# Altium footprint library STM32U5A5ZJT6.PcbLib: 3 footprints
Each footprint in its own frame and in the unit in brackets; x right, y up, seen from the top. Pads: shape width x height; smd on the part's side, far side on the other; paste and mask are expansions set on the pad; w line width, h text height; cw(c..) or ccw(c..) is an arc to the next point about the centre after c.
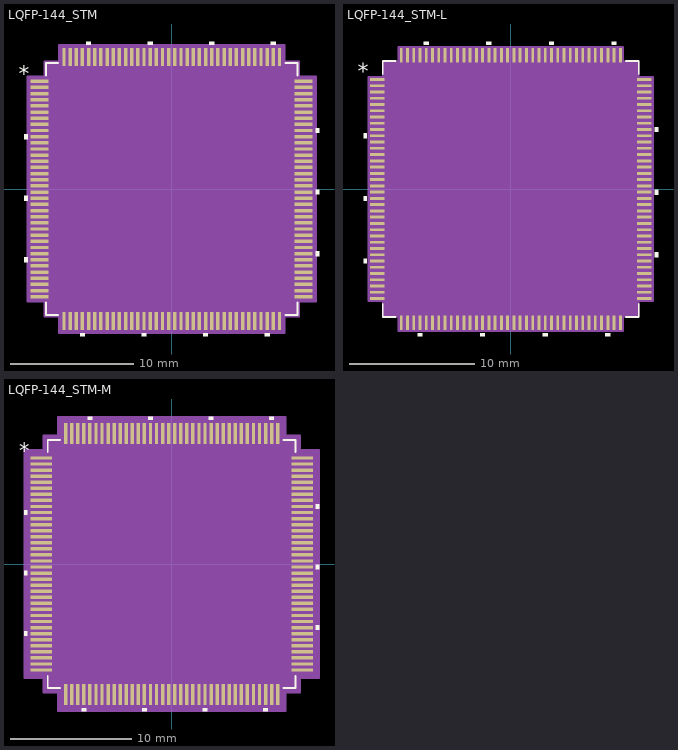
[diagram p0: the footprints below, top view; thin cyan lines are the x and y axes]

## LQFP-144_STM [mil]
pads (144):
  rect 57.56x11 smd paste+0 mask+0: 1(-422,344.49) 2(-422,324.8) 3(-422,305.12) 4(-422,285.43) 5(-422,265.75) 6(-422,246.06) 7(-422,226.38) 8(-422,206.69) 9(-422,187.01) 10(-422,167.32) 11(-422,147.64) 12(-422,127.95) 13(-422,108.27) 14(-422,88.58) 15(-422,68.9) 16(-422,49.21) 17(-422,29.53) 18(-422,9.84) 19(-422,-9.84) 20(-422,-29.53) 21(-422,-49.21) 22(-422,-68.9) 23(-422,-88.58) 24(-422,-108.27) 25(-422,-127.95) 26(-422,-147.64) 27(-422,-167.32) 28(-422,-187.01) 29(-422,-206.69) 30(-422,-226.38) 31(-422,-246.06) 32(-422,-265.75) 33(-422,-285.43) 34(-422,-305.12) 35(-422,-324.8) 36(-422,-344.49) 73(422,-344.49) 74(422,-324.8) 75(422,-305.12) 76(422,-285.43) 77(422,-265.75) 78(422,-246.06) 79(422,-226.38) 80(422,-206.69) 81(422,-187.01) 82(422,-167.32) 83(422,-147.64) 84(422,-127.95) 85(422,-108.27) 86(422,-88.58) 87(422,-68.9) 88(422,-49.21) 89(422,-29.53) 90(422,-9.84) 91(422,9.84) 92(422,29.53) 93(422,49.21) 94(422,68.9) 95(422,88.58) 96(422,108.27) 97(422,127.95) 98(422,147.64) 99(422,167.32) 100(422,187.01) 101(422,206.69) 102(422,226.38) 103(422,246.06) 104(422,265.75) 105(422,285.43) 106(422,305.12) 107(422,324.8) 108(422,344.49)
  rect 11x57.56 smd paste+0 mask+0: 37(-344.49,-422) 38(-324.8,-422) 39(-305.12,-422) 40(-285.43,-422) 41(-265.75,-422) 42(-246.06,-422) 43(-226.38,-422) 44(-206.69,-422) 45(-187.01,-422) 46(-167.32,-422) 47(-147.64,-422) 48(-127.95,-422) 49(-108.27,-422) 50(-88.58,-422) 51(-68.9,-422) 52(-49.21,-422) 53(-29.53,-422) 54(-9.84,-422) 55(9.84,-422) 56(29.53,-422) 57(49.21,-422) 58(68.9,-422) 59(88.58,-422) 60(108.27,-422) 61(127.95,-422) 62(147.64,-422) 63(167.32,-422) 64(187.01,-422) 65(206.69,-422) 66(226.38,-422) 67(246.06,-422) 68(265.75,-422) 69(285.43,-422) 70(305.12,-422) 71(324.8,-422) 72(344.49,-422) 109(344.49,422) 110(324.8,422) 111(305.12,422) 112(285.43,422) 113(265.75,422) 114(246.06,422) 115(226.38,422) 116(206.69,422) 117(187.01,422) 118(167.32,422) 119(147.64,422) 120(127.95,422) 121(108.27,422) 122(88.58,422) 123(68.9,422) 124(49.21,422) 125(29.53,422) 126(9.84,422) 127(-9.84,422) 128(-29.53,422) 129(-49.21,422) 130(-68.9,422) 131(-88.58,422) 132(-108.27,422) 133(-127.95,422) 134(-147.64,422) 135(-167.32,422) 136(-187.01,422) 137(-206.69,422) 138(-226.38,422) 139(-246.06,422) 140(-265.75,422) 141(-285.43,422) 142(-305.12,422) 143(-324.8,422) 144(-344.49,422)
Top Overlay:
  region: -460.78,174.82 -470.78,174.82 -470.78,159.82 -460.78,159.82
  region: -460.78,-22.03 -470.78,-22.03 -470.78,-37.03 -460.78,-37.03
  region: -460.78,-218.88 -470.78,-218.88 -470.78,-233.88 -460.78,-233.88
  region: -277.93,-460.78 -292.93,-460.78 -292.93,-470.78 -277.93,-470.78
  region: -81.08,-460.78 -96.08,-460.78 -96.08,-470.78 -81.08,-470.78
  region: 115.77,-460.78 100.77,-460.78 100.77,-470.78 115.77,-470.78
  region: 312.62,-460.78 297.62,-460.78 297.62,-470.78 312.62,-470.78
  region: 460.78,-199.19 470.78,-199.19 470.78,-214.19 460.78,-214.19
  region: 460.78,-2.34 470.78,-2.34 470.78,-17.34 460.78,-17.34
  region: 460.78,194.51 470.78,194.51 470.78,179.51 460.78,179.51
  region: 332.3,460.78 317.3,460.78 317.3,470.78 332.3,470.78
  region: 135.45,460.78 120.45,460.78 120.45,470.78 135.45,470.78
  region: -61.4,460.78 -76.4,460.78 -76.4,470.78 -61.4,470.78
  region: -258.25,460.78 -273.25,460.78 -273.25,470.78 -258.25,470.78
  lines w6: -402.5,-363.09 -402.5,-402.5 -363.09,-402.5 ; -402.5,363.09 -402.5,402.5 -363.09,402.5 ; 363.09,-402.5 402.5,-402.5 402.5,-363.09 ; 363.09,402.5 402.5,402.5 402.5,363.09
  text "*" at -488.28,344.33 h50
Mechanical 13:
  drawing of 581 lines, arcs and shapes, not listed
  text "*" at -395,329.33 h50
Mechanical 15:
  region: -359.99,-407.5 -407.5,-407.5 -407.5,-359.99 -460.78,-359.99 -460.78,359.99 -407.5,359.99 -407.5,407.5 -359.99,407.5 -359.99,460.78 359.99,460.78 359.99,407.5 407.5,407.5 407.5,359.99 460.78,359.99 460.78,-359.99 407.5,-359.99 407.5,-407.5 359.99,-407.5 359.99,-460.78 -359.99,-460.78
  lines w6: -460.78,-359.99 -407.5,-359.99 -407.5,-407.5 -359.99,-407.5 -359.99,-460.78 359.99,-460.78 359.99,-407.5 407.5,-407.5 407.5,-359.99 460.78,-359.99 460.78,359.99 407.5,359.99 407.5,407.5 359.99,407.5 359.99,460.78 -359.99,460.78 -359.99,407.5 -407.5,407.5 -407.5,359.99 -460.78,359.99 -460.78,-359.99
3D body "LQFP-144_STM.step": height 63.11, standoff 0, extent -437.01,-437.01 437.01,437.01

## LQFP-144_STM-L [mm]
pads (144):
  rect 1.162x0.229 smd paste+0 mask+0: 1(-10.669,8.75) 2(-10.669,8.25) 3(-10.669,7.75) 4(-10.669,7.25) 5(-10.669,6.75) 6(-10.669,6.25) 7(-10.669,5.75) 8(-10.669,5.25) 9(-10.669,4.75) 10(-10.669,4.25) 11(-10.669,3.75) 12(-10.669,3.25) 13(-10.669,2.75) 14(-10.669,2.25) 15(-10.669,1.75) 16(-10.669,1.25) 17(-10.669,0.75) 18(-10.669,0.25) 19(-10.669,-0.25) 20(-10.669,-0.75) 21(-10.669,-1.25) 22(-10.669,-1.75) 23(-10.669,-2.25) 24(-10.669,-2.75) 25(-10.669,-3.25) 26(-10.669,-3.75) 27(-10.669,-4.25) 28(-10.669,-4.75) 29(-10.669,-5.25) 30(-10.669,-5.75) 31(-10.669,-6.25) 32(-10.669,-6.75) 33(-10.669,-7.25) 34(-10.669,-7.75) 35(-10.669,-8.25) 36(-10.669,-8.75) 73(10.669,-8.75) 74(10.669,-8.25) 75(10.669,-7.75) 76(10.669,-7.25) 77(10.669,-6.75) 78(10.669,-6.25) 79(10.669,-5.75) 80(10.669,-5.25) 81(10.669,-4.75) 82(10.669,-4.25) 83(10.669,-3.75) 84(10.669,-3.25) 85(10.669,-2.75) 86(10.669,-2.25) 87(10.669,-1.75) 88(10.669,-1.25) 89(10.669,-0.75) 90(10.669,-0.25) 91(10.669,0.25) 92(10.669,0.75) 93(10.669,1.25) 94(10.669,1.75) 95(10.669,2.25) 96(10.669,2.75) 97(10.669,3.25) 98(10.669,3.75) 99(10.669,4.25) 100(10.669,4.75) 101(10.669,5.25) 102(10.669,5.75) 103(10.669,6.25) 104(10.669,6.75) 105(10.669,7.25) 106(10.669,7.75) 107(10.669,8.25) 108(10.669,8.75)
  rect 0.229x1.162 smd paste+0 mask+0: 37(-8.75,-10.669) 38(-8.25,-10.669) 39(-7.75,-10.669) 40(-7.25,-10.669) 41(-6.75,-10.669) 42(-6.25,-10.669) 43(-5.75,-10.669) 44(-5.25,-10.669) 45(-4.75,-10.669) 46(-4.25,-10.669) 47(-3.75,-10.669) 48(-3.25,-10.669) 49(-2.75,-10.669) 50(-2.25,-10.669) 51(-1.75,-10.669) 52(-1.25,-10.669) 53(-0.75,-10.669) 54(-0.25,-10.669) 55(0.25,-10.669) 56(0.75,-10.669) 57(1.25,-10.669) 58(1.75,-10.669) 59(2.25,-10.669) 60(2.75,-10.669) 61(3.25,-10.669) 62(3.75,-10.669) 63(4.25,-10.669) 64(4.75,-10.669) 65(5.25,-10.669) 66(5.75,-10.669) 67(6.25,-10.669) 68(6.75,-10.669) 69(7.25,-10.669) 70(7.75,-10.669) 71(8.25,-10.669) 72(8.75,-10.669) 109(8.75,10.669) 110(8.25,10.669) 111(7.75,10.669) 112(7.25,10.669) 113(6.75,10.669) 114(6.25,10.669) 115(5.75,10.669) 116(5.25,10.669) 117(4.75,10.669) 118(4.25,10.669) 119(3.75,10.669) 120(3.25,10.669) 121(2.75,10.669) 122(2.25,10.669) 123(1.75,10.669) 124(1.25,10.669) 125(0.75,10.669) 126(0.25,10.669) 127(-0.25,10.669) 128(-0.75,10.669) 129(-1.25,10.669) 130(-1.75,10.669) 131(-2.25,10.669) 132(-2.75,10.669) 133(-3.25,10.669) 134(-3.75,10.669) 135(-4.25,10.669) 136(-4.75,10.669) 137(-5.25,10.669) 138(-5.75,10.669) 139(-6.25,10.669) 140(-6.75,10.669) 141(-7.25,10.669) 142(-7.75,10.669) 143(-8.25,10.669) 144(-8.75,10.669)
Top Overlay:
  region: -6.559,11.504 -6.94,11.504 -6.94,11.758 -6.559,11.758
  region: -1.559,11.504 -1.94,11.504 -1.94,11.758 -1.559,11.758
  region: 3.441,11.504 3.06,11.504 3.06,11.758 3.441,11.758
  region: 8.441,11.504 8.06,11.504 8.06,11.758 8.441,11.758
  region: 11.504,4.941 11.758,4.941 11.758,4.56 11.504,4.56
  region: 11.504,-0.059 11.758,-0.059 11.758,-0.44 11.504,-0.44
  region: 11.504,-5.059 11.758,-5.059 11.758,-5.44 11.504,-5.44
  region: 7.94,-11.504 7.559,-11.504 7.559,-11.758 7.94,-11.758
  region: 2.94,-11.504 2.559,-11.504 2.559,-11.758 2.94,-11.758
  region: -2.06,-11.504 -2.441,-11.504 -2.441,-11.758 -2.06,-11.758
  region: -7.06,-11.504 -7.441,-11.504 -7.441,-11.758 -7.06,-11.758
  region: -11.504,-5.56 -11.758,-5.56 -11.758,-5.941 -11.504,-5.941
  region: -11.504,-0.56 -11.758,-0.56 -11.758,-0.941 -11.504,-0.941
  region: -11.504,4.44 -11.758,4.44 -11.758,4.059 -11.504,4.059
  lines w0.152: -10.223,-9.197 -10.223,-10.223 -9.197,-10.223 ; -10.223,9.197 -10.223,10.223 -9.197,10.223 ; 9.197,-10.223 10.223,-10.223 10.223,-9.197 ; 9.197,10.223 10.223,10.223 10.223,9.197
  text "*" at -12.202,8.746 h1.27
Mechanical 13:
  drawing of 581 lines, arcs and shapes, not listed
  text "*" at -10.033,8.365 h1.27
Mechanical 15:
  region: -8.966,-10.198 -10.198,-10.198 -10.198,-8.966 -11.351,-8.966 -11.351,8.966 -10.198,8.966 -10.198,10.198 -8.966,10.198 -8.966,11.351 8.966,11.351 8.966,10.198 10.198,10.198 10.198,8.966 11.351,8.966 11.351,-8.966 10.198,-8.966 10.198,-10.198 8.966,-10.198 8.966,-11.351 -8.966,-11.351
  lines w0.152: -11.351,-8.966 -11.351,8.966 -10.198,8.966 -10.198,10.198 -8.966,10.198 -8.966,11.351 8.966,11.351 8.966,10.198 10.198,10.198 10.198,8.966 11.351,8.966 11.351,-8.966 10.198,-8.966 10.198,-10.198 8.966,-10.198 8.966,-11.351 -8.966,-11.351 -8.966,-10.198 -10.198,-10.198 -10.198,-8.966 -11.351,-8.966
3D body "LQFP-144_STM.step": height 1.6, standoff 0, extent -11.1,-11.1 11.1,11.1

## LQFP-144_STM-M [mm]
pads (144):
  rect 1.762x0.279 smd paste+0 mask+0: 1(-10.769,8.75) 2(-10.769,8.25) 3(-10.769,7.75) 4(-10.769,7.25) 5(-10.769,6.75) 6(-10.769,6.25) 7(-10.769,5.75) 8(-10.769,5.25) 9(-10.769,4.75) 10(-10.769,4.25) 11(-10.769,3.75) 12(-10.769,3.25) 13(-10.769,2.75) 14(-10.769,2.25) 15(-10.769,1.75) 16(-10.769,1.25) 17(-10.769,0.75) 18(-10.769,0.25) 19(-10.769,-0.25) 20(-10.769,-0.75) 21(-10.769,-1.25) 22(-10.769,-1.75) 23(-10.769,-2.25) 24(-10.769,-2.75) 25(-10.769,-3.25) 26(-10.769,-3.75) 27(-10.769,-4.25) 28(-10.769,-4.75) 29(-10.769,-5.25) 30(-10.769,-5.75) 31(-10.769,-6.25) 32(-10.769,-6.75) 33(-10.769,-7.25) 34(-10.769,-7.75) 35(-10.769,-8.25) 36(-10.769,-8.75) 73(10.769,-8.75) 74(10.769,-8.25) 75(10.769,-7.75) 76(10.769,-7.25) 77(10.769,-6.75) 78(10.769,-6.25) 79(10.769,-5.75) 80(10.769,-5.25) 81(10.769,-4.75) 82(10.769,-4.25) 83(10.769,-3.75) 84(10.769,-3.25) 85(10.769,-2.75) 86(10.769,-2.25) 87(10.769,-1.75) 88(10.769,-1.25) 89(10.769,-0.75) 90(10.769,-0.25) 91(10.769,0.25) 92(10.769,0.75) 93(10.769,1.25) 94(10.769,1.75) 95(10.769,2.25) 96(10.769,2.75) 97(10.769,3.25) 98(10.769,3.75) 99(10.769,4.25) 100(10.769,4.75) 101(10.769,5.25) 102(10.769,5.75) 103(10.769,6.25) 104(10.769,6.75) 105(10.769,7.25) 106(10.769,7.75) 107(10.769,8.25) 108(10.769,8.75)
  rect 0.279x1.762 smd paste+0 mask+0: 37(-8.75,-10.769) 38(-8.25,-10.769) 39(-7.75,-10.769) 40(-7.25,-10.769) 41(-6.75,-10.769) 42(-6.25,-10.769) 43(-5.75,-10.769) 44(-5.25,-10.769) 45(-4.75,-10.769) 46(-4.25,-10.769) 47(-3.75,-10.769) 48(-3.25,-10.769) 49(-2.75,-10.769) 50(-2.25,-10.769) 51(-1.75,-10.769) 52(-1.25,-10.769) 53(-0.75,-10.769) 54(-0.25,-10.769) 55(0.25,-10.769) 56(0.75,-10.769) 57(1.25,-10.769) 58(1.75,-10.769) 59(2.25,-10.769) 60(2.75,-10.769) 61(3.25,-10.769) 62(3.75,-10.769) 63(4.25,-10.769) 64(4.75,-10.769) 65(5.25,-10.769) 66(5.75,-10.769) 67(6.25,-10.769) 68(6.75,-10.769) 69(7.25,-10.769) 70(7.75,-10.769) 71(8.25,-10.769) 72(8.75,-10.769) 109(8.75,10.769) 110(8.25,10.769) 111(7.75,10.769) 112(7.25,10.769) 113(6.75,10.769) 114(6.25,10.769) 115(5.75,10.769) 116(5.25,10.769) 117(4.75,10.769) 118(4.25,10.769) 119(3.75,10.769) 120(3.25,10.769) 121(2.75,10.769) 122(2.25,10.769) 123(1.75,10.769) 124(1.25,10.769) 125(0.75,10.769) 126(0.25,10.769) 127(-0.25,10.769) 128(-0.75,10.769) 129(-1.25,10.769) 130(-1.75,10.769) 131(-2.25,10.769) 132(-2.75,10.769) 133(-3.25,10.769) 134(-3.75,10.769) 135(-4.25,10.769) 136(-4.75,10.769) 137(-5.25,10.769) 138(-5.75,10.769) 139(-6.25,10.769) 140(-6.75,10.769) 141(-7.25,10.769) 142(-7.75,10.769) 143(-8.25,10.769) 144(-8.75,10.769)
Top Overlay:
  region: -11.904,4.44 -12.158,4.44 -12.158,4.059 -11.904,4.059
  region: -11.904,-0.56 -12.158,-0.56 -12.158,-0.941 -11.904,-0.941
  region: -11.904,-5.56 -12.158,-5.56 -12.158,-5.941 -11.904,-5.941
  region: -7.06,-11.904 -7.441,-11.904 -7.441,-12.158 -7.06,-12.158
  region: -2.06,-11.904 -2.441,-11.904 -2.441,-12.158 -2.06,-12.158
  region: 2.94,-11.904 2.559,-11.904 2.559,-12.158 2.94,-12.158
  region: 7.94,-11.904 7.559,-11.904 7.559,-12.158 7.94,-12.158
  region: 11.904,-5.059 12.158,-5.059 12.158,-5.44 11.904,-5.44
  region: 11.904,-0.059 12.158,-0.059 12.158,-0.44 11.904,-0.44
  region: 11.904,4.941 12.158,4.941 12.158,4.56 11.904,4.56
  region: 8.441,11.904 8.06,11.904 8.06,12.158 8.441,12.158
  region: 3.441,11.904 3.06,11.904 3.06,12.158 3.441,12.158
  region: -1.559,11.904 -1.94,11.904 -1.94,12.158 -1.559,12.158
  region: -6.559,11.904 -6.94,11.904 -6.94,12.158 -6.559,12.158
  lines w0.152: -10.223,-9.222 -10.223,-10.223 -9.222,-10.223 ; -10.223,9.222 -10.223,10.223 -9.222,10.223 ; 9.222,-10.223 10.223,-10.223 10.223,-9.222 ; 9.222,10.223 10.223,10.223 10.223,9.222
  text "*" at -12.602,8.746 h1.27
Mechanical 13:
  drawing of 581 lines, arcs and shapes, not listed
  text "*" at -10.033,8.365 h1.27
Mechanical 15:
  region: -9.398,-10.604 -10.604,-10.604 -10.604,-9.398 -12.158,-9.398 -12.158,9.398 -10.604,9.398 -10.604,10.604 -9.398,10.604 -9.398,12.158 9.398,12.158 9.398,10.604 10.604,10.604 10.604,9.398 12.158,9.398 12.158,-9.398 10.604,-9.398 10.604,-10.604 9.398,-10.604 9.398,-12.158 -9.398,-12.158
  lines w0.152: -12.158,-9.398 -10.604,-9.398 -10.604,-10.604 -9.398,-10.604 -9.398,-12.158 9.398,-12.158 9.398,-10.604 10.604,-10.604 10.604,-9.398 12.158,-9.398 12.158,9.398 10.604,9.398 10.604,10.604 9.398,10.604 9.398,12.158 -9.398,12.158 -9.398,10.604 -10.604,10.604 -10.604,9.398 -12.158,9.398 -12.158,-9.398
3D body "LQFP-144_STM.step": height 1.6, standoff 0, extent -11.1,-11.1 11.1,11.1